# EAGLE library part PESDXX5 (library lib_stankus)
NXP PESDXX5 TVS Farnell #8737649
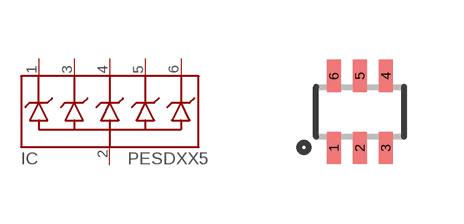
[diagram p92: symbol with the pads of SOT363; footprint SOT363]

Designator prefix IC

## PESDXX5-SOT363  [SOT363]
1  1  pas
2  2  pas
3  3  pas
4  4  pas
5  5  pas
6  6  pas

## Footprint SOT363 (pad centres in mm)
SOT363
smd 0.35 x 0.8: 1 -0.65,-0.9; 2 0,-0.9; 3 0.65,-0.9; 4 0.65,0.9; 5 0,0.9; 6 -0.65,0.9